# EAGLE library part PIC18F2450-QFN28 (library xess)
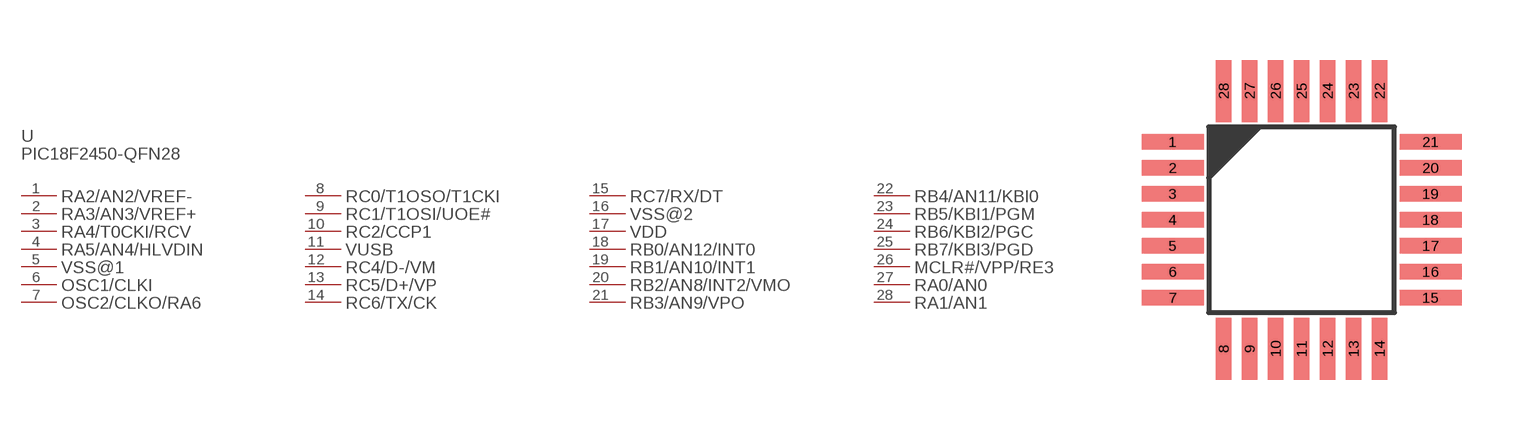
[diagram p90: symbol with the pads of PIC18F2450-QFN28; footprint PIC18F2450-QFN28]

Designator prefix U; gates PART_VALUE=PART_VALUE-PIC18F2450-QFN28 RA2/AN2/VREF-=PL-PIC18F2450-QFN28 RA3/AN3/VREF+=PL-PIC18F2450-QFN28 RA4/T0CKI/RCV=PL-PIC18F2450-QFN28 RA5/AN4/HLVDIN=PL-PIC18F2450-QFN28 VSS@1=PL-PIC18F2450-QFN28 OSC1/CLKI=PL-PIC18F2450-QFN28 OSC2/CLKO/RA6=PL-PIC18F2450-QFN28 RC0/T1OSO/T1CKI=PL-PIC18F2450-QFN28 RC1/T1OSI/UOE#=PL-PIC18F2450-QFN28 RC2/CCP1=PL-PIC18F2450-QFN28 VUSB=PL-PIC18F2450-QFN28 RC4/D-/VM=PL-PIC18F2450-QFN28 RC5/D+/VP=PL-PIC18F2450-QFN28 RC6/TX/CK=PL-PIC18F2450-QFN28 RC7/RX/DT=PL-PIC18F2450-QFN28 VSS@2=PL-PIC18F2450-QFN28 VDD=PL-PIC18F2450-QFN28 RB0/AN12/INT0=PL-PIC18F2450-QFN28 RB1/AN10/INT1=PL-PIC18F2450-QFN28 RB2/AN8/INT2/VMO=PL-PIC18F2450-QFN28 RB3/AN9/VPO=PL-PIC18F2450-QFN28 RB4/AN11/KBI0=PL-PIC18F2450-QFN28 RB5/KBI1/PGM=PL-PIC18F2450-QFN28 RB6/KBI2/PGC=PL-PIC18F2450-QFN28 RB7/KBI3/PGD=PL-PIC18F2450-QFN28 MCLR#/VPP/RE3=PL-PIC18F2450-QFN28 RA0/AN0=PL-PIC18F2450-QFN28 RA1/AN1=PL-PIC18F2450-QFN28

## PIC18F2450-QFN28  [PIC18F2450-QFN28]
1  RA2/AN2/VREF-:P$1
2  RA3/AN3/VREF+:P$1
3  RA4/T0CKI/RCV:P$1
4  RA5/AN4/HLVDIN:P$1
5  VSS@1:P$1
6  OSC1/CLKI:P$1
7  OSC2/CLKO/RA6:P$1
8  RC0/T1OSO/T1CKI:P$1
9  RC1/T1OSI/UOE#:P$1
10  RC2/CCP1:P$1
11  VUSB:P$1
12  RC4/D-/VM:P$1
13  RC5/D+/VP:P$1
14  RC6/TX/CK:P$1
15  RC7/RX/DT:P$1
16  VSS@2:P$1
17  VDD:P$1
18  RB0/AN12/INT0:P$1
19  RB1/AN10/INT1:P$1
20  RB2/AN8/INT2/VMO:P$1
21  RB3/AN9/VPO:P$1
22  RB4/AN11/KBI0:P$1
23  RB5/KBI1/PGM:P$1
24  RB6/KBI2/PGC:P$1
25  RB7/KBI3/PGD:P$1
26  MCLR#/VPP/RE3:P$1
27  RA0/AN0:P$1
28  RA1/AN1:P$1

## Footprint PIC18F2450-QFN28 (pad centres in mm)
smd 1.55 x 0.38: 1 -0.5,0; 2 -0.5,-0.65; 3 -0.5,-1.3; 4 -0.5,-1.95; 5 -0.5,-2.6; 6 -0.5,-3.25; 7 -0.5,-3.9; 15 5.95,-3.9; 16 5.95,-3.25; 17 5.95,-2.6; 18 5.95,-1.95; 19 5.95,-1.3; 20 5.95,-0.65; 21 5.95,0
smd 0.38 x 1.55: 8 0.775,-5.175; 9 1.425,-5.175; 10 2.075,-5.175; 11 2.725,-5.175; 12 3.375,-5.175; 13 4.025,-5.175; 14 4.675,-5.175; 22 4.675,1.275; 23 4.025,1.275; 24 3.375,1.275; 25 2.725,1.275; 26 2.075,1.275; 27 1.425,1.275; 28 0.775,1.275